# Altium schematic symbol library SC1_TP.SchLib: 1 symbol
Pins are listed as number, name and electrical type; pins without a type are passive.

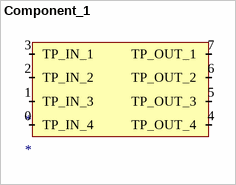
[diagram p0: symbol Component_1]

## Component_1
designator *
pins: 0 TP_IN_4, 1 TP_IN_3, 2 TP_IN_2, 3 TP_IN_1, 4 TP_OUT_4, 5 TP_OUT_3, 6 TP_OUT_2, 7 TP_OUT_1